# Altium footprint library VCNL3030X01-GS08.PcbLib: 3 footprints
Each footprint in its own frame and in the unit in brackets; x right, y up, seen from the top. Pads: shape width x height; smd on the part's side, far side on the other; paste and mask are expansions set on the pad; w line width, h text height; cw(c..) or ccw(c..) is an arc to the next point about the centre after c.
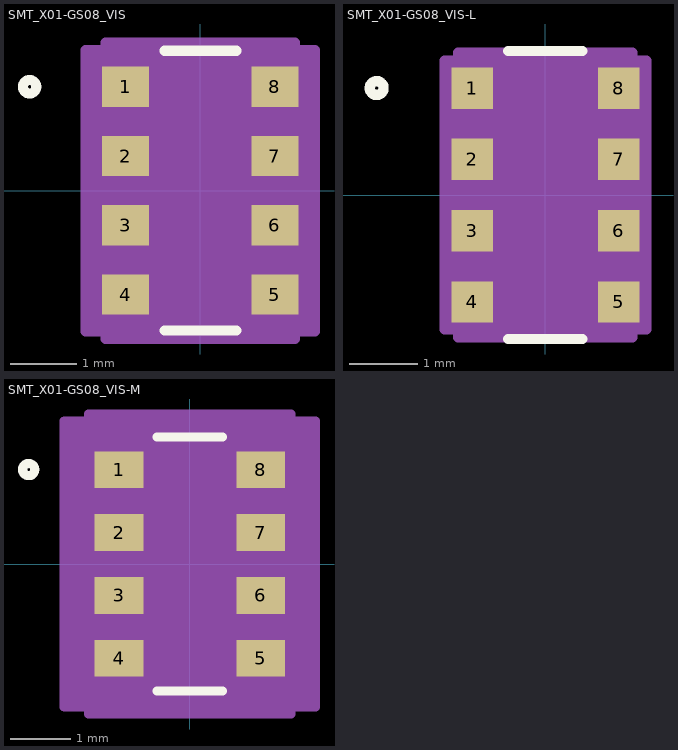
[diagram p0: the footprints below, top view; thin cyan lines are the x and y axes]

## SMT_X01-GS08_VIS [mil]
pads (8):
  rect 28x24 smd paste+0 mask+0: 1(-44.5,62.01) 2(-44.5,20.67) 3(-44.5,-20.67) 4(-44.5,-62.01) 5(44.5,-62.01) 6(44.5,-20.67) 7(44.5,20.67) 8(44.5,62.01)
Top Overlay:
  circle w6: c-101.84,62.01 r4
  lines w6: -21.47,-83.5 21.47,-83.5 ; -21.47,83.5 21.47,83.5
Mechanical 13:
  circle w0: c-30.5,62.01 r3
  lines w0: -12,78.5 ccw(c0,78.5) 12,78.5
  lines w1: -46.5,-78.5 46.5,-78.5 46.5,78.5 -46.5,78.5 -46.5,-78.5
Mechanical 15:
  region: -56.5,-84.01 -68.5,-84.01 -68.5,84.01 -56.5,84.01 -56.5,88.5 56.5,88.5 56.5,84.01 68.5,84.01 68.5,-84.01 56.5,-84.01 56.5,-88.5 -56.5,-88.5
  lines w6: -68.5,-84.01 -68.5,84.01 -56.5,84.01 -56.5,88.5 56.5,88.5 56.5,84.01 68.5,84.01 68.5,-84.01 56.5,-84.01 56.5,-88.5 -56.5,-88.5 -56.5,-84.01 -68.5,-84.01
3D body "SMT_X01-GS08_VIS.step": height 30.12, standoff 0, extent -46.5,-78.5 46.5,78.5

## SMT_X01-GS08_VIS-L [mil]
pads (8):
  rect 24x24 smd paste+0 mask+0: 1(-42.5,62.01) 2(-42.5,20.67) 3(-42.5,-20.67) 4(-42.5,-62.01) 5(42.5,-62.01) 6(42.5,-20.67) 7(42.5,20.67) 8(42.5,62.01)
Top Overlay:
  circle w6: c-97.84,62.01 r4
  lines w6: -21.47,-83.5 21.47,-83.5 ; -21.47,83.5 21.47,83.5
Mechanical 13:
  circle w0: c-30.5,62.01 r3
  lines w0: -12,78.5 ccw(c0,78.5) 12,78.5
  lines w1: -46.5,-78.5 46.5,-78.5 46.5,78.5 -46.5,78.5 -46.5,-78.5
Mechanical 15:
  region: -50.5,-78.01 -58.5,-78.01 -58.5,78.01 -50.5,78.01 -50.5,82.5 50.5,82.5 50.5,78.01 58.5,78.01 58.5,-78.01 50.5,-78.01 50.5,-82.5 -50.5,-82.5
  lines w6: -58.5,-78.01 -58.5,78.01 -50.5,78.01 -50.5,82.5 50.5,82.5 50.5,78.01 58.5,78.01 58.5,-78.01 50.5,-78.01 50.5,-82.5 -50.5,-82.5 -50.5,-78.01 -58.5,-78.01
3D body "SMT_X01-GS08_VIS.step": height 30.12, standoff 0, extent -46.5,-78.5 46.5,78.5

## SMT_X01-GS08_VIS-M [mil]
pads (8):
  rect 32x24 smd paste+0 mask+0: 1(-46.5,62.01) 2(-46.5,20.67) 3(-46.5,-20.67) 4(-46.5,-62.01) 5(46.5,-62.01) 6(46.5,-20.67) 7(46.5,20.67) 8(46.5,62.01)
Top Overlay:
  circle w6: c-105.84,62.01 r4
  lines w6: -21.47,-83.5 21.47,-83.5 ; -21.47,83.5 21.47,83.5
Mechanical 13:
  circle w0: c-30.5,62.01 r3
  lines w0: -12,78.5 ccw(c0,78.5) 12,78.5
  lines w1: -46.5,-78.5 46.5,-78.5 46.5,78.5 -46.5,78.5 -46.5,-78.5
Mechanical 15:
  region: -66.5,-94.01 -82.5,-94.01 -82.5,94.01 -66.5,94.01 -66.5,98.5 66.5,98.5 66.5,94.01 82.5,94.01 82.5,-94.01 66.5,-94.01 66.5,-98.5 -66.5,-98.5
  lines w6: -82.5,-94.01 -82.5,94.01 -66.5,94.01 -66.5,98.5 66.5,98.5 66.5,94.01 82.5,94.01 82.5,-94.01 66.5,-94.01 66.5,-98.5 -66.5,-98.5 -66.5,-94.01 -82.5,-94.01
3D body "SMT_X01-GS08_VIS.step": height 30.12, standoff 0, extent -46.5,-78.5 46.5,78.5